# EAGLE library part SMALL_MAVRIC_BMP280 (library small_mavric)
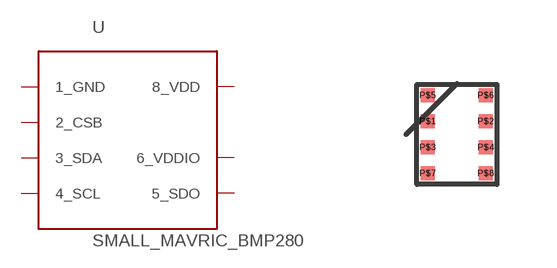
[diagram p5: symbol with the pads of SMALL_MAVRIC_SMALL_MAVRIC_SMALL_MAVRIC_LGA-8; footprint SMALL_MAVRIC_SMALL_MAVRIC_SMALL_MAVRIC_LGA-8]

Designator prefix -

## SMALL_MAVRIC_BMP280 (DISTRIBUTOR: mouser; ORDER_CODE: 262-BMP280; PLACE_PART: YES)  [SMALL_MAVRIC_SMALL_MAVRIC_SMALL_MAVRIC_LGA-8]
P$1  1_GND
P$2  2_CSB
P$3  3_SDA
P$4  4_SCL
P$5  5_SDO
P$6  6_VDDIO
P$7  1_GND
P$8  8_VDD

## Footprint SMALL_MAVRIC_SMALL_MAVRIC_SMALL_MAVRIC_LGA-8 (pad centres in mm)
smd 0.35 x 0.35: P$1 -0.725,0.325; P$2 0.725,0.325; P$3 -0.725,-0.325; P$4 0.725,-0.325; P$5 -0.725,0.975; P$6 0.725,0.975; P$7 -0.725,-0.975; P$8 0.725,-0.975